# Altium footprint library Geral_Footprints.PcbLib: 18 footprints (part 2 of 2)
Each footprint in its own frame and in the unit in brackets; x right, y up, seen from the top. Pads: shape width x height; smd on the part's side, far side on the other; paste and mask are expansions set on the pad; w line width, h text height; cw(c..) or ccw(c..) is an arc to the next point about the centre after c.
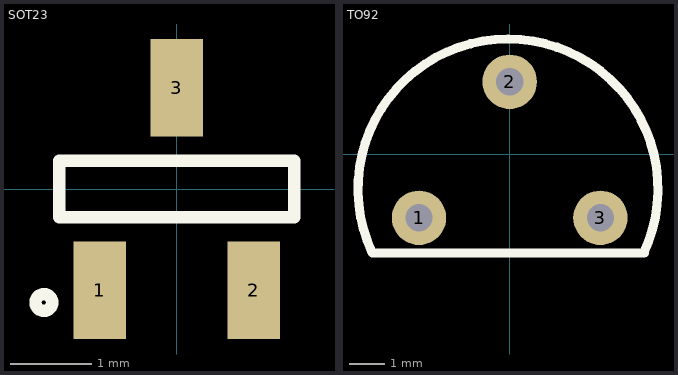
[diagram p1: the footprints below, top view; thin cyan lines are the x and y axes]

## SOT23 [mm] "Transistor"
pads (3):
  rect 0.65x1.2 smd: 1(-0.95,-1.25) 2(0.95,-1.25) 3(0,1.25)
Top Overlay:
  circle w0.152: c-1.64,-1.4 r0.103
  lines w0.152: -1.45,-0.35 -1.45,0.35 1.45,0.35 1.45,-0.35 -1.45,-0.35
3D body: height 1.08, standoff -0.02, extent -1.5,-1.25 1.5,1.25

## TO92 [mil]
pads (3):
  round 60 hole 30: 1(-100,-70) 2(0,80) 3(100,-70)
Top Overlay:
  lines w10: -151.5,-108.88 148.3,-108.88 ; -151.42,-108.82 cw(c-1.9,-38.21) 147.79,-108.45
3D body: height 381.89, standoff -106.3, extent -110.08,-78.9 110,90
3D body: height 381.89, standoff -106.3, extent -110.08,-78.9 110,90